# Altium footprint library Diodes.PcbLib: 20 footprints (part 1 of 2)
Each footprint in its own frame and in the unit in brackets; x right, y up, seen from the top. Pads: shape width x height; smd on the part's side, far side on the other; paste and mask are expansions set on the pad; w line width, h text height; cw(c..) or ccw(c..) is an arc to the next point about the centre after c.
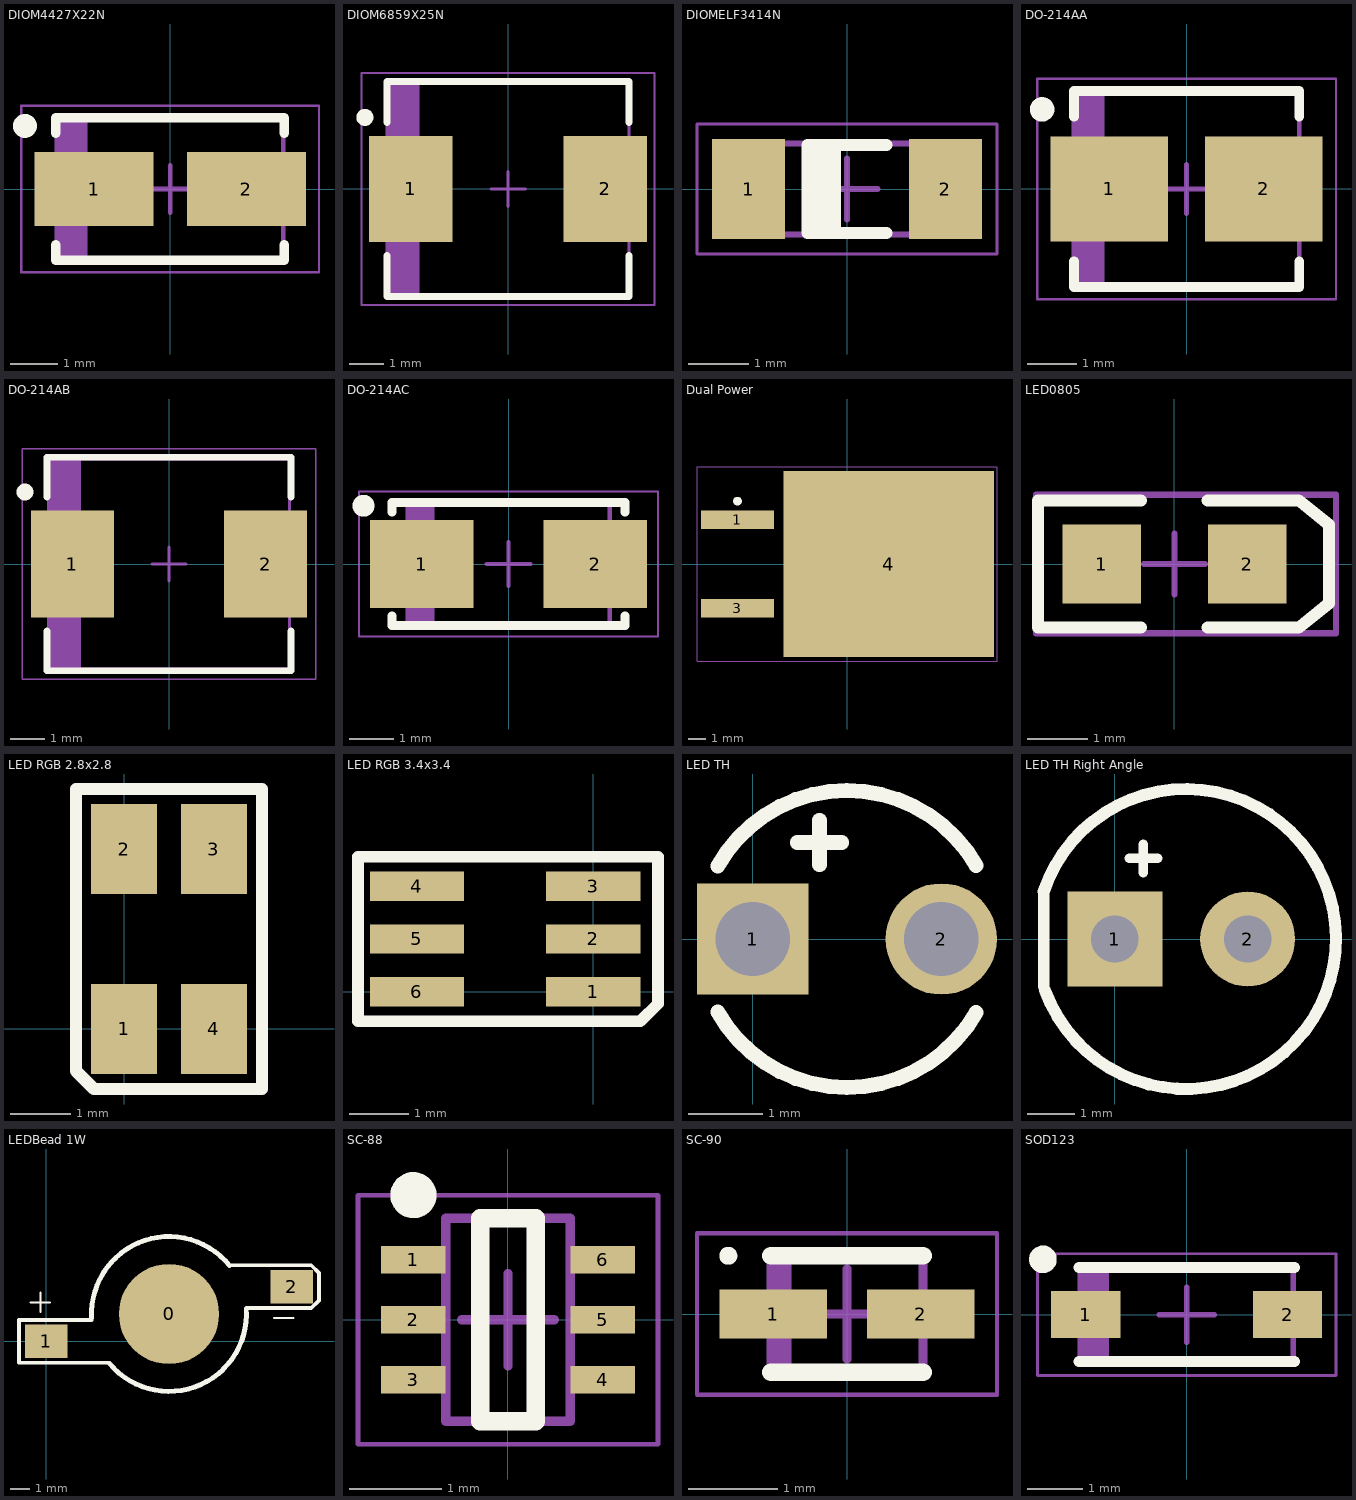
[diagram p0: the footprints below, top view; thin cyan lines are the x and y axes]

## DIOM4427X22N [mm] "Molded Diode, 2-Leads, Body 4,38x2,73mm, IPC Medium Density"
height 2.2
pads (2):
  rect 2.5x1.55 smd: 1(-1.6,0) 2(1.6,0)
Top Overlay:
  circle w0.25: c-3.05,1.325 r0.125
  lines w0.2: -2.4,-1.175 -2.4,-1.5 2.4,-1.5 2.4,-1.175 ; -2.4,1.175 -2.4,1.5 2.4,1.5 2.4,1.175
Mechanical 13:
  rectangle: -2.375,-1.475 -1.736,1.475
  lines w0.1: -2.375,-1.475 2.375,-1.475 2.375,1.475 -2.375,1.475 -2.375,-1.475
Mechanical 15:
  lines w0.05: -3.125,-1.75 3.125,-1.75 3.125,1.75 -3.125,1.75 -3.125,-1.75
  lines w0.1: -0.5,0 0.5,0 ; 0,-0.5 0,0.5
3D body: height 2.2, standoff 0, extent -2.375,-1.475 2.375,1.475

## DIOM6859X25N [mm] "Molded Diode, 2-Leads, Body 6,85x5,90mm, IPC Medium Density"
height 2.5
pads (2):
  rect 2.45x3.1 smd: 1(-2.85,0) 2(2.85,0)
Top Overlay:
  circle w0.25: c-4.2,2.1 r0.125
  lines w0.2: -3.55,-1.95 -3.55,-3.15 3.55,-3.15 3.55,-1.95 ; -3.55,1.95 -3.55,3.15 3.55,3.15 3.55,1.95
Mechanical 13:
  rectangle: -3.55,-3.1 -2.595,3.1
  lines w0.1: -3.55,-3.1 -3.55,3.1 3.55,3.1 3.55,-3.1 -3.55,-3.1
Mechanical 15:
  lines w0.05: -4.3,-3.4 -4.3,3.4 4.3,3.4 4.3,-3.4 -4.3,-3.4
  lines w0.1: -0.5,0 0.5,0 ; 0,-0.5 0,0.5
3D body: height 2.5, standoff 0, extent -3.55,-3.1 3.55,3.1

## DIOMELF3414N [mm] "MELF Diode, 2-Leads, Body 3,45x1,40mm, IPC Medium Density"
height 1.5
pads (2):
  rect 1.2x1.65 smd: 1(-1.625,0) 2(1.625,0)
Top Overlay:
  rectangle: -0.65,-0.725 -0.1,0.725
  lines w0.2: 0.65,-0.725 -0.65,-0.725 -0.65,0.725 0.65,0.725
Mechanical 13:
  lines w0.1: -1.8,-0.75 1.8,-0.75 1.8,0.75 -1.8,0.75 -1.8,-0.75
Mechanical 15:
  lines w0.05: -2.475,-1.075 2.475,-1.075 2.475,1.075 -2.475,1.075 -2.475,-1.075
  lines w0.1: -0.5,0 0.5,0 ; 0,-0.5 0,0.5
3D body: height 1.49, standoff 0, extent 1.3,-0.75 1.8,0.747
3D body: height 1.48, standoff 0.04, extent -1.3,-0.72 1.3,0.717
3D body: height 1.48, standoff 0.04, extent -0.7,-0.721 -0.1,0.718
3D body: height 1.49, standoff 0, extent -1.8,-0.75 -1.3,0.747

## DO-214AA [mm] "Molded Diode, 2-Leads, Body 4,32x3,63mm, IPC Medium Density"
height 2.2
pads (2):
  rect 2.4x2.15 smd: 1(-1.575,0) 2(1.575,0)
Top Overlay:
  circle w0.25: c-2.95,1.625 r0.125
  lines w0.2: -2.3,-1.475 -2.3,-2 2.3,-2 2.3,-1.475 ; -2.3,1.475 -2.3,2 2.3,2 2.3,1.475
Mechanical 13:
  rectangle: -2.3,-1.975 -1.681,1.975
  lines w0.1: -2.3,-1.975 -2.3,1.975 2.3,1.975 2.3,-1.975 -2.3,-1.975
Mechanical 15:
  lines w0.05: -3.05,-2.25 -3.05,2.25 3.05,2.25 3.05,-2.25 -3.05,-2.25
  lines w0.1: -0.5,0 0.5,0 ; 0,-0.5 0,0.5
3D body "User Library-DIOM5539X24.step": height 2.45, standoff 0.03, extent -2.75,-1.95 2.75,1.95

## DO-214AB [mm] "Molded Diode, 2-Leads, Body 6,85x5,90mm, IPC Medium Density"
height 2.62
pads (2):
  rect 2.45x3.15 smd: 1(-2.85,0) 2(2.85,0)
Top Overlay:
  circle w0.25: c-4.25,2.125 r0.125
  lines w0.2: -3.6,-1.975 -3.6,-3.15 3.6,-3.15 3.6,-1.975 ; -3.6,1.975 -3.6,3.15 3.6,3.15 3.6,1.975
Mechanical 13:
  rectangle: -3.555,-3.11 -2.599,3.11
  lines w0.1: -3.555,-3.11 3.555,-3.11 3.555,3.11 -3.555,3.11 -3.555,-3.11
Mechanical 15:
  lines w0.05: -4.325,-3.4 4.325,-3.4 4.325,3.4 -4.325,3.4 -4.325,-3.4
  lines w0.1: -0.5,0 0.5,0 ; 0,-0.5 0,0.5
3D body "User Library-DIOM8261X24.step": height 2.4, standoff 0.03, extent -4.065,-3.05 4.065,3.05

## DO-214AC [mm] "Molded Diode, 2-Leads, Body 5,10x2,67mm, IPC Medium Density"
height 2.29
pads (2):
  rect 2.35x2 smd: 1(-1.975,0) 2(1.975,0)
Top Overlay:
  circle w0.25: c-3.3,1.325 r0.125
  lines w0.2: -2.65,-1.175 -2.65,-1.4 2.65,-1.4 2.65,-1.175 ; -2.65,1.175 -2.65,1.4 2.65,1.4 2.65,1.175
Mechanical 13:
  rectangle: -2.3,-1.415 -1.681,1.415
  lines w0.1: -2.3,-1.415 -2.3,1.415 2.3,1.415 2.3,-1.415 -2.3,-1.415
Mechanical 15:
  lines w0.05: -3.4,-1.65 3.4,-1.65 3.4,1.65 -3.4,1.65 -3.4,-1.65
  lines w0.1: -0.5,0 0.5,0 ; 0,-0.5 0,0.5
3D body "User Library-DIOM5528X26.step": height 2.6, standoff 0.03, extent -2.75,-1.4 2.75,1.4

## Dual Power [mm] "D2-PAK, 3-Pads, Body 7,73x8,66mm (max), IPC Medium Density"
height 4.7
pads (3):
  rect 4.2x1.05 smd: 1(-6.3,2.54) 3(-6.3,-2.54)
  rect 12.1x10.7 smd: 4(2.4,0)
Top Overlay:
  circle w0.25: c-6.3,3.615 r0.125
Mechanical 13:
  lines w0.1: -2.95,-5.3 6.3,-5.3 6.3,5.3 -2.95,5.3 -2.95,-5.3
Mechanical 15:
  lines w0.05: -8.625,-5.6 8.625,-5.6 8.625,5.6 -8.625,5.6 -8.625,-5.6
  lines w0.1: -0.5,0 0.5,0 ; 0,-0.5 0,0.5
3D body: height 4.7, standoff 0, extent -2.95,-5.3 6.3,5.3

## LED0805 [mm] "SM LED; 2 Flat Leads"
height 0.9
pads (2):
  rect 1.3x1.3 smd: 1(-1.2,0) 2(1.2,0)
Top Overlay:
  lines w0.2: -0.55,-1.05 -2.25,-1.05 -2.25,1.05 -0.55,1.05 ; 0.55,-1.05 2.05,-1.05 2.55,-0.65 2.55,0.65 2.05,1.05 0.55,1.05
Mechanical 15:
  lines w0.1: -0.5,0 0.5,0 ; 0,-0.5 0,0.5 ; -2.286,-1.143 -2.286,1.143 2.667,1.143 2.667,-1.143 -2.286,-1.143
3D body "User Library-User Library-led_0805 GRE.step": height 1.1, standoff 0, extent -0.81,-0.65 1.21,0.6

## LED RGB 2.8x2.8 [mm]
height 2.1
pads (4):
  rect 1.1x1.5 smd: 1(0,0) 2(0,3) 3(1.5,3) 4(1.5,0)
Top Overlay:
  lines w0.2: -0.8,-0.7 -0.5,-1 1.5,-1 2.3,-1 2.3,3.5 2.3,4 -0.7,4 -0.8,4 -0.8,-0.7

## LED RGB 3.4x3.4 [mm]
height 1.8
pads (6):
  rect 1.6x0.5 smd: 1(0,0) 2(0,0.9) 3(0,1.8) 4(-3,1.8) 5(-3,0.9) 6(-3,0)
Top Overlay:
  lines w0.2: -4,-0.5 0.8,-0.5 1.1,-0.2 1.1,-0.1 1.1,2.3 -4,2.3 -4,-0.5

## LED TH [mm]
pads (2):
  rect 1.5x1.5 hole 1: 1(0,0)
  round 1.5 hole 1: 2(2.54,0)
Top Overlay:
  lines w0.2: -0.471,-0.984 ccw(c1.27,0) 3.008,-0.99 ; -0.471,0.984 cw(c1.27,0) 3.008,0.99 ; 0.6,1.3 1.2,1.3 ; 0.9,1 0.9,1.6
3D body "User Library-LED-D3G.step": height 4.6, standoff -6.5, extent -0.567,-2 3.1,2

## LED TH Right Angle [mm]
pads (2):
  rect 2x2 hole 1: 1(0,0)
  round 2 hole 1: 2(2.8,0)
Top Overlay:
  lines w0.2: 0.3,1.7 0.9,1.7 ; 0.6,1.4 0.6,2
  lines w0.25: -1.5,-1 -1.5,1
  lines w0.254: -1.5,1 cw(c1.5,0) -1.469,-1.089
3D body "User Library-LH2040_right angle.step": height 4.99, standoff -4, extent -0.584,-0.25 2.92,10.2

## LEDBead 1W [mm]
pads (3):
  round 5.15 smd: 0(6.3,1.4)
  rect 2.2x1.7 smd: 1(0,0) 2(12.6,2.8)
Top Overlay:
  lines w0.1: -0.8,2 0.2,2 ; -0.3,1.5 -0.3,2.5 ; 11.7,1.2 12.7,1.2
  lines w0.2: 2.33,1.1 -1.4,1.1 -1.4,-1.1 3.2,-1.1 ; 9.4,3.9 13.6,3.9 14,3.5 14,2.1 13.6,1.7 10.264,1.7
  lines w0.254: 2.33,1.201 cw(c6.3,1.4) 9.394,3.895 ; 3.238,-1.134 ccw(c6.3,1.4) 10.264,1.69
3D body "User Library-Power LED2.step": height 5.55, standoff 0, extent -1.15,-2.6 13.35,5.4

## SC-88 [mm] "SOT23, 6-Leads, Body 2,00x2,10mm, Pitch 0,65mm, IPC Medium Density"
height 1.1
pads (6):
  rect 0.7x0.3 smd: 1(-1.025,0.65) 2(-1.025,0) 3(-1.025,-0.65) 4(1.025,-0.65) 5(1.025,0) 6(1.025,0.65)
Top Overlay:
  circle w0.25: c-1.025,1.35 r0.125
  lines w0.2: -0.3,-1.1 0.3,-1.1 0.3,1.1 -0.3,1.1 -0.3,-1.1
Mechanical 13:
  lines w0.1: -0.675,-1.1 -0.675,1.1 0.675,1.1 0.675,-1.1 -0.675,-1.1
Mechanical 15:
  lines w0.05: -1.625,-1.35 -1.625,1.35 1.625,1.35 1.625,-1.35 -1.625,-1.35
  lines w0.1: -0.5,0 0.5,0 ; 0,-0.5 0,0.5
3D body "User Library-SC-88A.step": height 1.01, standoff 0, extent -1.05,-1 1.05,1

## SC-90 [mm] "Molded Diode, 2-Leads, Body 1,70x1,25mm, IPC Medium Density"
height 0.7
pads (2):
  rect 1.2x0.55 smd: 1(-0.825,0) 2(0.825,0)
Top Overlay:
  circle w0.1: c-1.325,0.65 r0.05
  lines w0.2: -0.85,-0.65 0.85,-0.65 ; -0.85,0.65 0.85,0.65
Mechanical 13:
  rectangle: -0.85,-0.625 -0.621,0.625
  lines w0.1: -0.85,-0.625 -0.85,0.625 0.85,0.625 0.85,-0.625 -0.85,-0.625
Mechanical 15:
  lines w0.05: -1.675,-0.9 -1.675,0.9 1.675,0.9 1.675,-0.9 -1.675,-0.9
  lines w0.1: -0.5,0 0.5,0 ; 0,-0.5 0,0.5
3D body: height 0.7, standoff 0, extent -0.85,-0.625 0.85,0.625

## SOD123 [mm] "Molded Diode, 2-Leads, Body 3,70x1,55mm, IPC Medium Density"
height 1.35
pads (2):
  rect 1.25x0.85 smd: 1(-1.825,0) 2(1.825,0)
Top Overlay:
  circle w0.25: c-2.6,1 r0.125
  lines w0.2: -1.95,-0.85 1.95,-0.85 ; -1.95,0.85 1.95,0.85
Mechanical 13:
  rectangle: -1.925,-0.85 -1.407,0.85
  lines w0.1: -1.925,-0.85 1.925,-0.85 1.925,0.85 -1.925,0.85 -1.925,-0.85
Mechanical 15:
  lines w0.05: -2.7,-1.1 2.7,-1.1 2.7,1.1 -2.7,1.1 -2.7,-1.1
  lines w0.1: -0.5,0 0.5,0 ; 0,-0.5 0,0.5
3D body "User Library-SOD123.step": height 1.27, standoff 0, extent -1.85,-0.8 1.85,0.8